# Altium integrated library Zilog Peripheral Floppy Disk Controller.IntLib: 2 symbols
Pins are listed as number, name and electrical type; pins without a type are passive.

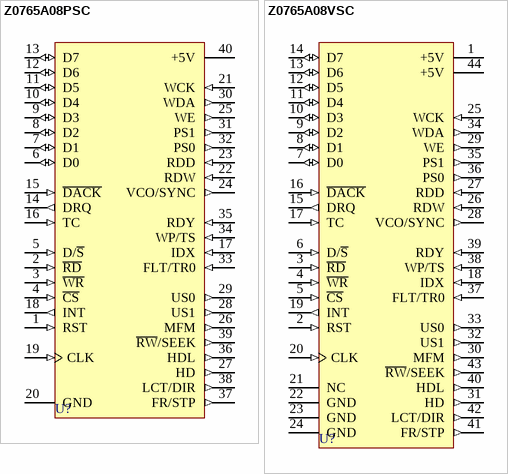
[diagram p0: symbols Z0765A08PSC to Z0765A08VSC]

## Z0765A08PSC
designator U?
LSI Floppy Disk Controller; Published: 15-Apr-2002; LatestRevisionDate: 04-Mar-2005; LatestRevisionNote: Stylized 3D Model Added.; DatasheetVersion: Oct-1988; PackageVersion: Jun-1999; PackageReference: PDIP40; Publisher: Altium Limited; PackageDescription: DIP; 40 Leads; Row Spacing 15.24 mm; Pitch 2.54 mm; ComponentLink1Description: Manufacturer Link; ComponentLink1URL: http://www.zilog.com/
footprint PDIP40 (DIP; 40 Leads; Row Spacing 15.24 mm; Pitch 2.54 mm)
3D model PDIP40 (DIP; 40 Leads; Row Spacing 15.24 mm; Pitch 2.54 mm)
pins: 1 RST (in), 2 ~{RD} (in), 3 ~{WR} (in), 4 ~{CS} (in), 5 D/~{S} (in), 6 D0 (io), 7 D1 (io), 8 D2 (io), 9 D3 (io), 10 D4 (io), 11 D5 (io), 12 D6 (io), 13 D7 (io), 14 DRQ (out), 15 ~{DACK} (in), 16 TC (in), 17 IDX (in), 18 INT (out), 19 CLK (in), 20 GND (power), 21 WCK (in), 22 RDW (in), 23 RDD (in), 24 VCO/SYNC (out), 25 WE (out), 26 MFM (out), 27 HD (out), 28 US1 (out), 29 US0 (out), 30 WDA (out), 31 PS1 (out), 32 PS0 (out), 33 FLT/TR0 (in), 34 WP/TS (in), 35 RDY (in), 36 HDL (out), 37 FR/STP (out), 38 LCT/DIR (out), 39 ~{RW}/SEEK (out), 40 +5V (power)

## Z0765A08VSC
designator U?
LSI Floppy Disk Controller; Published: 15-Apr-2002; LatestRevisionDate: 13-Apr-2006; LatestRevisionNote: IPC-7351 Footprint Added.; DatasheetVersion: Oct-1988; PackageReference: PCC44; Publisher: Altium Limited; PackageDescription: 44-Pin Leaded Chip Carrier 1.27 mm Pitch; Code_IPC: PLCC-44; ComponentLink1Description: Manufacturer Link; ComponentLink1URL: http://www.zilog.com/
footprint PCC44_N (Leaded Chip Carrier, 44-Leads, Body 16.6x16.6mm, Pitch 1.27mm, IPC Medium Density)
footprint PCC44_L (Leaded Chip Carrier, 44-Leads, Body 16.6x16.6mm, Pitch 1.27mm, IPC High Density)
footprint PCC44_M (Leaded Chip Carrier, 44-Leads, Body 16.6x16.6mm, Pitch 1.27mm, IPC Low Density)
3D model Z0765A-PCC44 (44-Pin Leaded Chip Carrier 1.27 mm Pitch)
pins: 1 +5V (power), 2 RST (in), 3 ~{RD} (in), 4 ~{WR} (in), 5 ~{CS} (in), 6 D/~{S} (in), 7 D0 (io), 8 D1 (io), 9 D2 (io), 10 D3 (io), 11 D4 (io), 12 D5 (io), 13 D6 (io), 14 D7 (io), 15 DRQ (out), 16 ~{DACK} (in), 17 TC (in), 18 IDX (in), 19 INT (out), 20 CLK (in), 21 NC, 22 GND (power), 23 GND (power), 24 GND (power), 25 WCK (in), 26 RDW (in), 27 RDD (in), 28 VCO/SYNC (out), 29 WE (out), 30 MFM (out), 31 HD (out), 32 US1 (out), 33 US0 (out), 34 WDA (out), 35 PS1 (out), 36 PS0 (out), 37 FLT/TR0 (in), 38 WP/TS (in), 39 RDY (in), 40 HDL (out), 41 FR/STP (out), 42 LCT/DIR (out), 43 ~{RW}/SEEK (out), 44 +5V (power)